# Altium footprint library PcbLib1.PcbLib: 32 footprints (part 1 of 2)
Each footprint in its own frame and in the unit in brackets; x right, y up, seen from the top. Pads: shape width x height; smd on the part's side, far side on the other; paste and mask are expansions set on the pad; w line width, h text height; cw(c..) or ccw(c..) is an arc to the next point about the centre after c.
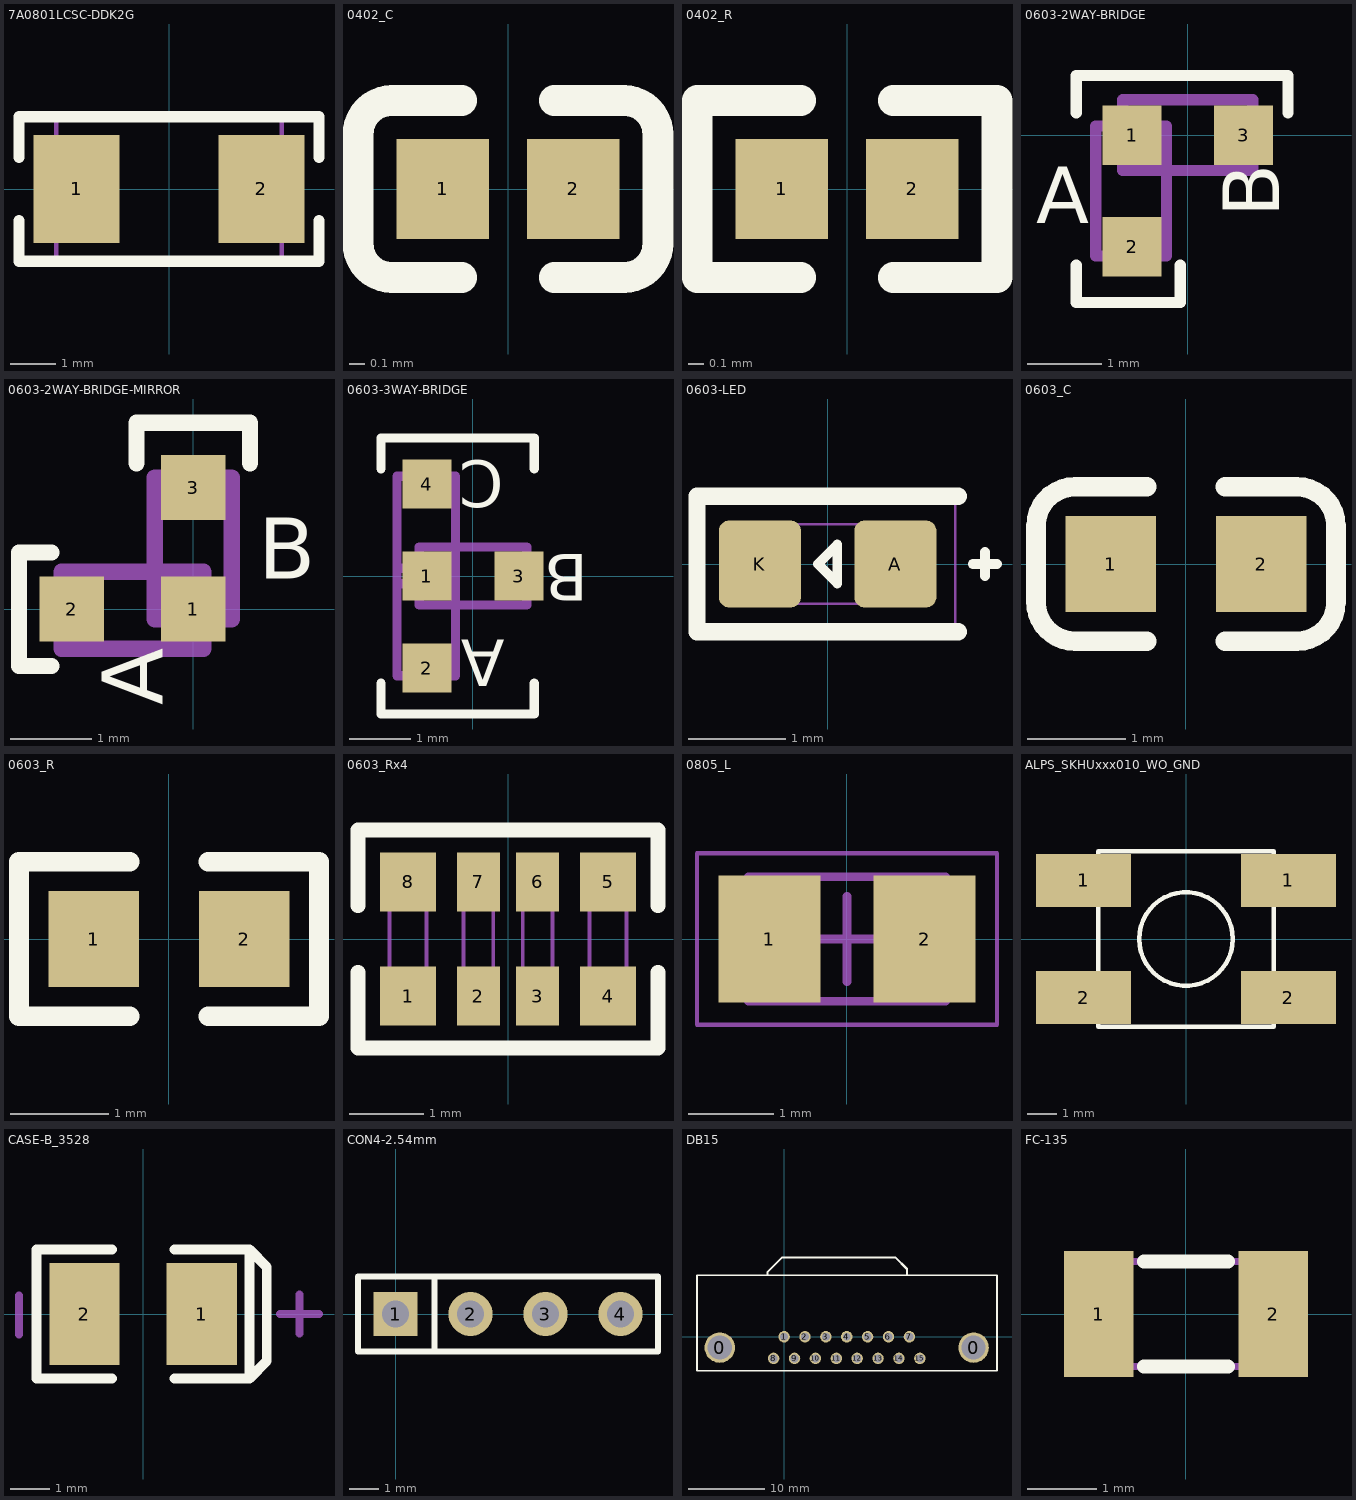
[diagram p0: the footprints below, top view; thin cyan lines are the x and y axes]

## 7A0801LCSC-DDK2G [mm]
pads (2):
  rect 1.9x2.4 smd: 1(-2.05,0) 2(2.05,0)
Top Overlay:
  lines w0.254: -3.325,-0.7 -3.325,-1.6 3.325,-1.6 3.325,-0.7 ; -3.325,0.7 -3.325,1.6 3.325,1.6 3.325,0.7
Mechanical 13:
  lines w0.1: -2.5,-1.6 2.5,-1.6 2.5,1.6 -2.5,1.6 -2.5,-1.6

## 0402_C [mm] "0402_C"
pads (2):
  rect 0.6x0.65 smd mask+0.051: 1(-0.425,0) 2(0.425,0)
Top Overlay:
  lines w0.2: -0.755,-0.575 cw(c-0.755,-0.355) -0.975,-0.355 -0.975,0.355 cw(c-0.755,0.355) -0.755,0.575 ; -0.75,-0.575 -0.3,-0.575 ; -0.75,0.575 -0.3,0.575 ; 0.3,-0.575 0.75,-0.575 ; 0.3,0.575 0.75,0.575 ; 0.755,-0.575 ccw(c0.755,-0.355) 0.975,-0.355 0.975,0.355 ccw(c0.755,0.355) 0.755,0.575
3D body "0402 SMD Capacitor.step": height 0.2, standoff 0, extent -0.483,-0.3 0.518,0.3

## 0402_R [mm]
pads (2):
  rect 0.6x0.65 smd mask+0.051: 1(-0.425,0) 2(0.425,0)
Top Overlay:
  lines w0.2: -0.3,-0.575 -0.975,-0.575 -0.975,0.575 -0.3,0.575 ; 0.3,-0.575 0.975,-0.575 0.975,0.575 0.3,0.575
3D body "User Library-RES_1005-0402.STEP": height 0.41, standoff 0, extent -0.575,-0.275 0.575,0.275

## 0603-2WAY-BRIDGE [mil]
pads (3):
  rect 31.5x31.5 smd: 1(-29.53,0) 2(-29.53,-59.06) 3(29.53,0)
Top Overlay:
  lines w5.91: -59.06,-68.9 -59.06,-88.58 -3.94,-88.58 -3.94,-68.9 ; -59.06,11.81 -59.06,31.5 53.15,31.5 53.15,11.81
  text "A" at -80.39,-46.56 h30
  text "B" at 48.53,-43.53 h30
Mechanical 15:
  lines w5.91: -48.72,-63.98 -48.72,4.92 -11.32,4.92 -11.32,-63.98 -48.72,-63.98 ; -34.45,-18.7 -34.45,18.7 34.45,18.7 34.45,-18.7 -34.45,-18.7

## 0603-2WAY-BRIDGE-MIRROR [mm]
pads (3):
  rect 0.8x0.8 smd: 1(0,0) 2(-1.5,0) 3(0,1.5)
Top Overlay:
  lines w0.2: -1.75,-0.7 -2.15,-0.7 -2.15,0.7 -1.75,0.7 ; -0.7,1.8 -0.7,2.3 0.7,2.3 0.7,1.8
  text "B" at 0.802,0.375 h0.75
  text "A" at -0.375,-1.186 h0.75
Mechanical 15:
  lines w0.2: -1.625,-0.487 0.125,-0.487 0.125,0.463 -1.625,0.463 -1.625,-0.487 ; -0.475,-0.125 0.475,-0.125 0.475,1.625 -0.475,1.625 -0.475,-0.125

## 0603-3WAY-BRIDGE [mil]
pads (4):
  rect 31.5x31.5 smd: 1(-29.53,0) 2(-29.53,-59.06) 3(29.53,0) 4(-29.53,59.06)
Top Overlay:
  lines w5.91: -59.06,-68.9 -59.06,-88.58 39.37,-88.58 39.37,-68.9 ; -59.06,68.9 -59.06,88.58 39.37,88.58 39.37,68.9
  text "B" at 74,14 h30
  text "C" at 19.71,74 h30
  text "A" at 20.43,-41 h30
Mechanical 15:
  lines w5.91: -48.72,-63.98 -11.32,-63.98 -11.32,4.92 -48.72,4.92 -48.72,-63.98 ; -48.72,-4.92 -11.32,-4.92 -11.32,63.98 -48.72,63.98 -48.72,-4.92 ; -34.45,-18.7 34.45,-18.7 34.45,18.7 -34.45,18.7 -34.45,-18.7

## 0603-LED [mm]
pads (2):
  rrect25% 0.85x0.9 smd mask+0.127: A(0.7,0) K(-0.7,0)
Top Overlay:
  lines w0.102: 1.5,0 1.75,0 ; 1.625,-0.125 1.625,0.125 ; -0.1,0 0.1,0.2 0.1,-0.2 -0.1,0
  lines w0.18: 1.35,-0.7 -1.35,-0.7 -1.35,0.7 1.35,0.7
Mechanical 13:
  lines w0.025: -0.5,-0.41 -0.5,0.41 ; 0.5,-0.41 0.5,0.41 ; -0.85,-0.41 -0.85,0.41 0.85,0.41 0.85,-0.41 -0.85,-0.41
Mechanical 15:
  lines w0.025: -1.321,-0.648 1.321,-0.648 1.321,0.648 -1.321,0.648 -1.321,-0.648
3D body "0603-RES.stp": height 0.57, standoff 0, extent -0.9,-0.45 0.9,0.45

## 0603_C [mm] "0603_C"
pads (2):
  rect 0.93x0.98 smd: 1(-0.77,0) 2(0.77,0)
Top Overlay:
  lines w0.2: -0.4,-0.79 -1.135,-0.79 cw(c-1.135,-0.39) -1.535,-0.39 -1.535,0.39 cw(c-1.135,0.39) -1.135,0.79 -0.4,0.79 ; 0.4,-0.79 1.135,-0.79 ccw(c1.135,-0.39) 1.535,-0.39 1.535,0.39 ccw(c1.135,0.39) 1.135,0.79 0.4,0.79
3D body "User Library-0603 SMD Capacitor.STEP": height 0.3, standoff 0, extent -0.8,-0.4 0.8,0.4

## 0603_R [mm]
pads (2):
  rect 0.93x0.98 smd: 1(-0.77,0) 2(0.77,0)
Top Overlay:
  lines w0.2: -0.4,-0.79 -1.535,-0.79 -1.535,0.79 -0.4,0.79 ; 0.4,-0.79 1.535,-0.79 1.535,0.79 0.4,0.79
3D body "User Library-RES_1609-0603.STEP": height 0.56, standoff 0, extent -0.85,-0.4 0.85,0.4

## 0603_Rx4 [mm]
pads (8):
  rect 0.75x0.8 smd mask+0.051: 1(-1.35,-0.77) 4(1.35,-0.77) 5(1.35,0.77) 8(-1.35,0.77)
  rect 0.58x0.8 smd mask+0.051: 2(-0.4,-0.77) 3(0.4,-0.77) 6(0.4,0.77) 7(-0.4,0.77)
Top Overlay:
  lines w0.2: -2.025,-0.45 -2.025,-1.47 2.025,-1.47 2.025,-0.45 ; -2.025,0.45 -2.025,1.47 2.025,1.47 2.025,0.45
Mechanical 13:
  lines w0.05: -1.6,-0.8 -1.6,0.8 -1.1,0.8 -1.1,-0.8 -1.6,-0.8 ; -0.6,-0.8 -0.6,0.8 -0.2,0.8 -0.2,-0.8 -0.6,-0.8 ; 0.2,-0.8 0.2,0.8 0.6,0.8 0.6,-0.8 0.2,-0.8 ; 1.1,-0.8 1.1,0.8 1.6,0.8 1.6,-0.8 1.1,-0.8
3D body "SW3dPS-RN164P.STEP": height 0.55, standoff 0, extent -1.6,-0.8 1.6,0.8

## 0805_L [mm] "Chip Inductor, 2-Leads, Body 2.10x1.30mm, IPC Medium Density"
height 1.05
pads (2):
  rect 1.19x1.48 smd: 1(-0.905,0) 2(0.905,0)
Mechanical 13:
  lines w0.1: -1.15,-0.725 -1.15,0.725 1.15,0.725 1.15,-0.725 -1.15,-0.725
Mechanical 15:
  lines w0.05: -1.75,-1 -1.75,1 1.75,1 1.75,-1 -1.75,-1
  lines w0.1: -0.5,0 0.5,0 ; 0,-0.5 0,0.5
3D body "0805_L.step": height 1.05, standoff 0, extent -1.15,-0.725 1.15,0.725

## ALPS_SKHUxxx010_WO_GND [mm]
pads (4):
  rect 3.25x1.8 smd: 1(-3.5,2) 1(3.5,2) 2(-3.5,-2) 2(3.5,-2)
Top Overlay:
  circle w0.152: c0,0 r1.601
  lines w0.152: -3,-3 -3,3 3,3 3,-3 -3,-3
3D body "Switch tact 6x6mm.stp": height 3.1, standoff 0, extent -4,-3 4,3.3

## CASE-B_3528 [mm]
pads (2):
  rect 1.8x2.6 smd: 1(1.5,0) 2(-1.5,0)
Top Overlay:
  lines w0.254: -0.8,-1.65 -2.727,-1.65 -2.727,1.65 -0.8,1.65 ; 0.8,-1.65 2.727,-1.65 ; 0.8,1.65 2.727,1.65 ; 2.727,-1.65 2.727,1.65 ; 2.727,-1.65 3.163,-1.2 3.163,1.2 2.727,1.65
Mechanical 15:
  lines w0.203: -3.175,-0.525 -3.175,0.475 ; 3.5,0 4.5,0 ; 4,-0.5 4,0.5
3D body "User Library-AVX_BCASE.STEP": height 2.03, standoff 0, extent -1.85,-1.465 1.85,1.465

## CON4-2.54mm [mm]
pads (4):
  rect 1.5x1.5 hole 0.9: 1(0,0)
  round 1.5 hole 0.9: 2(2.54,0) 3(5.08,0) 4(7.62,0)
Top Overlay:
  lines w0.2: 1.325,-1.27 1.325,1.25 ; -1.27,-1.27 8.89,-1.27 8.89,1.27 -1.27,1.27 -1.27,-1.27

## DB15 [mm] "DB15"
pads (17):
  round 4 hole 3.18: 0(-8.43,-1.42) 0(24.87,-1.42)
  round 1.5 hole 1.04: 1(0,0) 2(2.74,0) 3(5.48,0) 4(8.22,0) 5(10.96,0) 6(13.7,0) 7(16.44,0) 8(-1.37,-2.84) 9(1.37,-2.84) 10(4.11,-2.84) 11(6.85,-2.84) 12(9.59,-2.84) 13(12.33,-2.84) 14(15.07,-2.84) 15(17.81,-2.84)
Top Overlay:
  lines w0.2: -11.43,-4.445 -11.43,8.1 27.94,8.1 27.94,-4.445 -11.43,-4.445
  lines w0.254: -2.159,8.1 -2.159,8.509 -0.254,10.414 14.605,10.414 16.129,8.89 16.129,8.1

## FC-135 [mm]
pads (2):
  rect 1x1.8 smd: 1(-1.25,0) 2(1.25,0)
Top Overlay:
  lines w0.2: -0.6,-0.75 0.6,-0.75 ; -0.6,0.75 0.6,0.75
Mechanical 3:
  lines w0.1: -1.6,-0.55 cw(c-1.6,-0.75) -1.4,-0.75 1.4,-0.75 cw(c1.6,-0.75) 1.6,-0.55 1.6,0.55 cw(c1.6,0.75) 1.4,0.75 -1.4,0.75 cw(c-1.6,0.75) -1.6,0.55 -1.6,-0.55
3D body "User Library-Siward_SX3215.step": height 0.81, standoff 0, extent -1.6,-0.75 1.6,0.75
3D body: height 0.81, standoff 0.15, extent -1.2,-0.6 1.2,0.6